# EAGLE library part 614004134726 (library USB3IO)
WR-COM Up Right USB Type A,4 pins=>Code : Con_I-O_COM_USB-2.0_A_614004134726 <http://katalog.we-online.de/media/images/eican/Con_I-O_COM_USB-2.0_A_614004134726_pf2.jpg> Details see: http://katalog.we-online.de/en/em/614_004_134_726 Created 2014-07-09, Karrer Zheng 2014 (C) Würth Elektronik
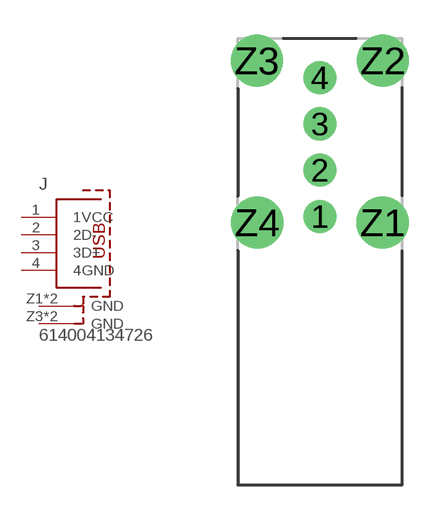
[diagram p157: symbol with the pads of 614004134726; footprint 614004134726]

Designator prefix J

## 614004134726  [614004134726]
1  1VCC
2  2D-
3  3D+
4  4GND
Z1  GND
Z2  GND
Z3  GND
Z4  GND

## Footprint 614004134726 (pad centres in mm)
WR-COM Up Right USB Type A, 4 pins
drill 0.92: 1 0,0; 2 0,2; 3 0,4; 4 0,6
drill 1.5: Z1 2.71,-0.27; Z2 2.72,6.73; Z3 -2.72,6.73; Z4 -2.71,-0.27